# Altium schematic symbol library Fuse.SchLib: 7 symbols
Pins are listed as number, name and electrical type; pins without a type are passive.

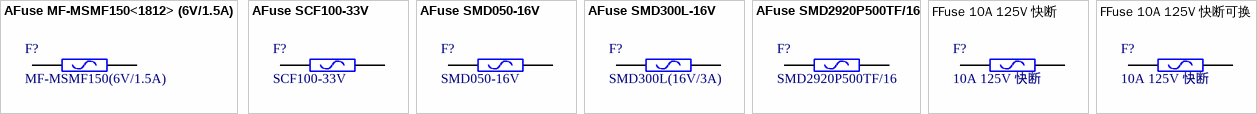
[diagram p0: symbols AFuse MF-MSMF150<1812> (6V/1.5A) to FFuse 10A 125V 快断可换]

## AFuse MF-MSMF150<1812> (6V/1.5A)
designator F?, comment MF-MSMF150(6V/1.5A)
自恢复保险丝
footprint 1812
pins: 1, 2

## AFuse SCF100-33V
designator F?, comment SCF100-33V
自恢复保险丝
footprint FUSE-2920
pins: 1, 2

## AFuse SMD050-16V
designator F?, comment SMD050-16V
自恢复保险丝
footprint 1206_F
pins: 1, 2

## AFuse SMD300L-16V
designator F?, comment SMD300L(16V/3A)
自恢复保险丝
footprint FUSE-2920
pins: 1, 2

## AFuse SMD2920P500TF/16
designator F?, comment SMD2920P500TF/16
自恢复保险丝
footprint FUSE-2920
pins: 1, 2

## FFuse 10A 125V 快断
designator F?, comment 10A 125V 快断
一次性保险丝
footprint FUSE SMF45
pins: 1, 2

## FFuse 10A 125V 快断可换
designator F?, comment 10A 125V 快断
一次性保险丝
footprint FUSE SMF45_LIRREL (SMF Fuse and Holder, 2-Leads, Body 9.73x5.03mm)
pins: 1, 2